# Altium footprint library PCB - LEADLESS - QFN - TI WQFN-FCRLF RZR0016A.PcbLib: 1 footprints
Each footprint in its own frame and in the unit in brackets; x right, y up, seen from the top. Pads: shape width x height; smd on the part's side, far side on the other; paste and mask are expansions set on the pad; w line width, h text height; cw(c..) or ccw(c..) is an arc to the next point about the centre after c.
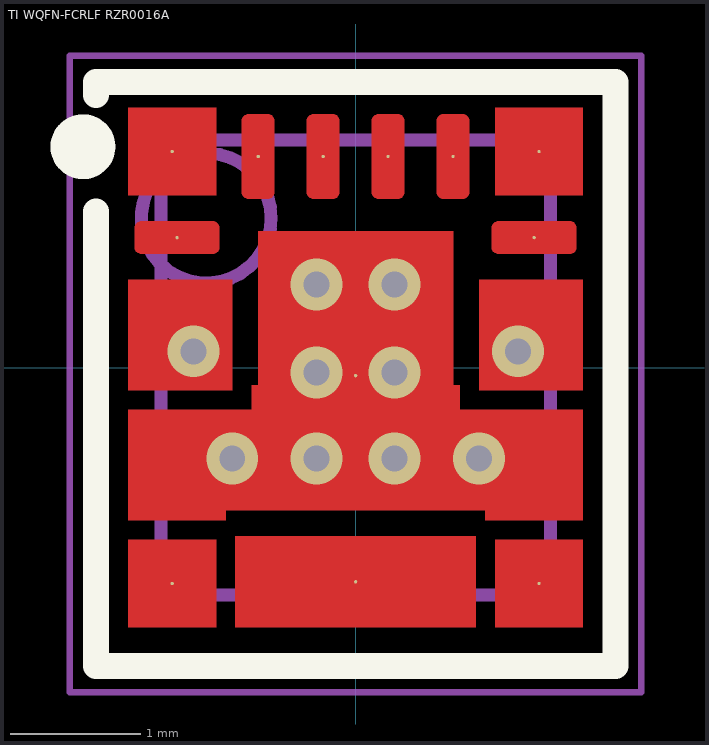
[diagram p0: the footprint, top view; thin cyan lines are the x and y axes]

## TI WQFN-FCRLF RZR0016A [mil]
height 27.56
pads (14):
  round 1 smd paste-99999 mask+4: 1(-55.61,65.45) 3(-53.15,9.84) 4(0,-2.46) 5(-55.61,-65.45) 6(0,-64.96) 7(55.61,-65.45) 9(53.15,9.84) 11(55.61,65.45)
  round 1 smd paste+0 mask+0: 2(-54.13,39.37) 10(54.13,39.37) 12(29.53,63.98) 13(9.84,63.98) 14(-9.84,63.98) 15(-29.53,63.98)
via 49.21,4.92 diameter 15.75 hole 7.87
via 11.81,25.2 diameter 15.75 hole 7.87
via 11.81,-1.5 diameter 15.75 hole 7.87
via 11.81,-27.56 diameter 15.75 hole 7.87
via 37.4,-27.56 diameter 15.75 hole 7.87
via -49.21,4.92 diameter 15.75 hole 7.87
via -11.81,25.2 diameter 15.75 hole 7.87
via -11.81,-1.5 diameter 15.75 hole 7.87
via -11.81,-27.56 diameter 15.75 hole 7.87
via -37.4,-27.56 diameter 15.75 hole 7.87
Top Layer:
  region: 4.92,53.15 4.92,74.8 4.92,75.19 5.22,75.92 5.77,76.47 6.5,76.77 6.89,76.77 12.8,76.77 13.19,76.77 13.91,76.47 14.46,75.92 14.76,75.19 14.76,74.8 14.76,53.15 14.76,52.76 14.46,52.03 13.91,51.48 13.19,51.18 12.8,51.18 6.89,51.18 6.5,51.18 5.77,51.48 5.22,52.03 4.92,52.76
  region: 24.61,53.15 24.61,74.8 24.61,75.19 24.91,75.92 25.46,76.47 26.18,76.77 26.57,76.77 32.48,76.77 32.87,76.77 33.6,76.47 34.15,75.92 34.45,75.19 34.45,74.8 34.45,53.15 34.45,52.76 34.15,52.03 33.6,51.48 32.87,51.18 32.48,51.18 26.57,51.18 26.18,51.18 25.46,51.48 24.91,52.03 24.61,52.76
  region: 42.32,52.17 42.32,78.74 68.9,78.74 68.9,52.17
  region: 41.34,36.42 41.34,36.03 41.64,35.3 42.19,34.75 42.92,34.45 43.31,34.45 64.96,34.45 65.35,34.45 66.08,34.75 66.63,35.3 66.93,36.03 66.93,36.42 66.93,42.32 66.93,42.71 66.63,43.44 66.08,43.99 65.35,44.29 64.96,44.29 43.31,44.29 42.92,44.29 42.19,43.99 41.64,43.44 41.34,42.71 41.34,42.32
  region: 37.4,-6.89 37.4,26.57 68.9,26.57 68.9,-6.89
  region: 42.32,-78.74 42.32,-52.17 68.9,-52.17 68.9,-78.74
  region: -36.42,-78.74 36.42,-78.74 36.42,-51.18 -36.42,-51.18
  region: -68.9,-78.74 -68.9,-52.17 -42.32,-52.17 -42.32,-78.74
  region: -39.37,-46.26 -39.37,-43.31 39.37,-43.31 39.37,-46.26 68.9,-46.26 68.9,-12.8 31.5,-12.8 31.5,-5.43 29.53,-5.43 29.53,41.34 -29.53,41.34 -29.53,-5.43 -31.5,-5.43 -31.5,-12.8 -68.9,-12.8 -68.9,-46.26
  region: -68.9,-6.89 -68.9,26.57 -37.4,26.57 -37.4,-6.89
  region: -12.8,51.18 -13.19,51.18 -13.91,51.48 -14.46,52.03 -14.76,52.76 -14.76,53.15 -14.76,74.8 -14.76,75.19 -14.46,75.92 -13.91,76.47 -13.19,76.77 -12.8,76.77 -6.89,76.77 -6.5,76.77 -5.77,76.47 -5.22,75.92 -4.92,75.19 -4.92,74.8 -4.92,53.15 -4.92,52.76 -5.22,52.03 -5.77,51.48 -6.5,51.18 -6.89,51.18
  region: -34.45,53.15 -34.45,74.8 -34.45,75.19 -34.15,75.92 -33.6,76.47 -32.87,76.77 -32.48,76.77 -26.57,76.77 -26.18,76.77 -25.46,76.47 -24.91,75.92 -24.61,75.19 -24.61,74.8 -24.61,53.15 -24.61,52.76 -24.91,52.03 -25.46,51.48 -26.18,51.18 -26.57,51.18 -32.48,51.18 -32.87,51.18 -33.6,51.48 -34.15,52.03 -34.45,52.76
  region: -64.96,34.45 -65.35,34.45 -66.08,34.75 -66.63,35.3 -66.93,36.03 -66.93,36.42 -66.93,42.32 -66.93,42.71 -66.63,43.44 -66.08,43.99 -65.35,44.29 -64.96,44.29 -43.31,44.29 -42.92,44.29 -42.19,43.99 -41.64,43.44 -41.34,42.71 -41.34,42.32 -41.34,36.42 -41.34,36.03 -41.64,35.3 -42.19,34.75 -42.92,34.45 -43.31,34.45
  region: -68.9,52.17 -68.9,78.74 -42.32,78.74 -42.32,52.17
Top Overlay:
  circle w9.84: c-82.68,66.93 r4.92
  lines w7.87: -78.74,47.24 -78.74,-90.55 78.74,-90.55 78.74,86.61 -78.74,86.61 -78.74,82.68
Top Paste:
  drawing of 16 lines, arcs and shapes, not listed
Top Solder:
  drawing of 10 lines, arcs and shapes, not listed
Mechanical 13:
  circle w3.94: c-45.28,45.28 r19.68
  lines w3.94: -59.06,-68.9 59.06,-68.9 59.06,68.9 -59.06,68.9 -59.06,-68.9
Mechanical 15:
  lines w1.97: -86.61,-98.43 -86.61,94.49 86.61,94.49 86.61,-98.43 -86.61,-98.43
  lines w3.94: -19.69,0 19.68,0 ; 0,-19.68 0,19.69
3D body "TI - RZR0016A.step": height 27.56, standoff 0, extent -59.09,-68.94 59.09,68.94